# Altium footprint library Inductors.PcbLib: 15 footprints
Each footprint in its own frame and in the unit in brackets; x right, y up, seen from the top. Pads: shape width x height; smd on the part's side, far side on the other; paste and mask are expansions set on the pad; w line width, h text height; cw(c..) or ccw(c..) is an arc to the next point about the centre after c.
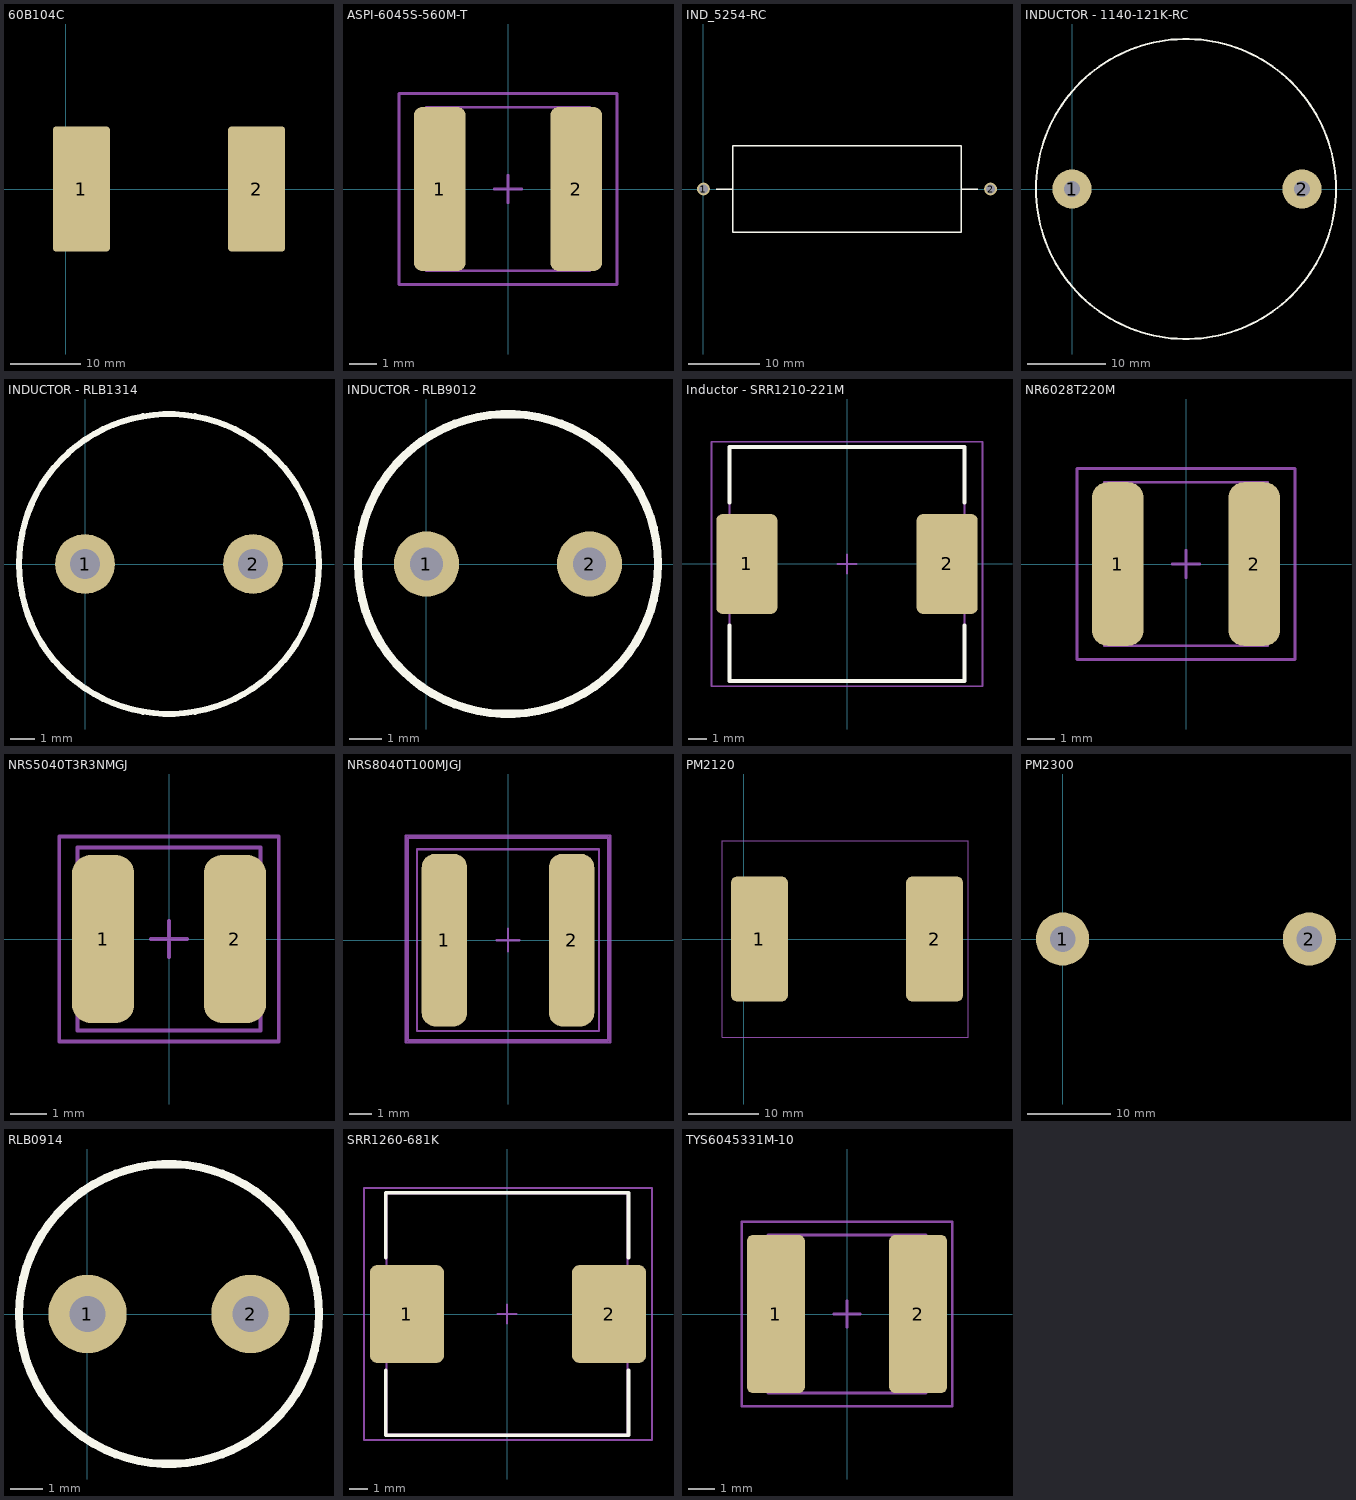
[diagram p0: the footprints below, top view; thin cyan lines are the x and y axes]

## 60B104C [mm]
pads (2):
  rrect10% 8.08x17.78 smd paste-0.026: 1(2.262,0) 2(27.202,0)
Assembly:
  text ".Designator" at 12.6,-0.2 h1.1
3D body "IND_MURATA_6000B.stp": height 19.99, standoff 0, extent 3,-13.5 26.495,13.5

## ASPI-6045S-560M-T [mm] "Inductor"
height 4.5
pads (2):
  rrect30% 1.9x6 smd paste-0.026: 1(-2.5,0) 2(2.5,0)
Mechanical 13:
  lines w0.1: -3,-3 3,-3 3,3 -3,3 -3,-3
Mechanical 15:
  lines w0.1: -0.5,0 0.5,0 ; 0,-0.5 0,0.5 ; -4,-3.5 -4,3.5 4,3.5 4,-3.5 -4,-3.5
Assembly:
  lines w0.1: -4,-3.5 4,-3.5 4,3.5 -4,3.5 -4,-3.5
  text ".Designator" at -2.4,-0.2 h1.1
3D body: height 4.5, standoff 3.5, extent -3,-3 3,3
3D body: height 1, standoff 0, extent -3,-2.5 3,2.5
3D body: height 4.5, standoff 0, extent -2.5,-2.499 2.5,2.499

## IND_5254-RC [mm]
pads (2):
  round 1.8 hole 1.2: 1(0,0) 2(40,0)
Top Overlay:
  lines w0.2: 1.8,0 4.075,0 ; 35.925,0 38.2,0 ; 4.075,0 4.075,-6 35.925,-6 35.925,6 4.075,6 4.075,0

## INDUCTOR - 1140-121K-RC [mm]
pads (2):
  round 5 hole 2: 1(0,0) 2(29.21,0)
Top Overlay:
  circle w0.254: c14.478,0 r19.05
3D body: height 26.2, standoff 0, extent -4.572,-19.012 33.378,19.012

## INDUCTOR - RLB1314 [mm]
pads (2):
  round 2.5 hole 1.25: 1(0,0) 2(7,0)
Top Overlay:
  circle w0.254: c3.5,0 r6.25
3D body: height 13, standoff 0, extent -2.7,-6.275 9.751,6.2

## INDUCTOR - RLB9012 [mm]
pads (2):
  round 2 hole 1: 1(0,0) 2(5,0)
Top Overlay:
  circle w0.254: c2.5,0 r4.6
3D body: height 11, standoff 0, extent -2.082,-4.6 7.082,4.582

## Inductor - SRR1210-221M [mm] "Molded Inductor, 2-Leads, Body 12.0x12.0mm, IPC Medium Density"
height 10
pads (2):
  rrect20% 3.25x5.3 smd paste-0.026: 1(-5.325,0) 2(5.325,0)
Top Overlay:
  lines w0.2: -6.25,-3.256 -6.25,-6.223 6.25,-6.223 6.25,-3.256 ; -6.25,3.256 -6.25,6.223 6.25,6.223 6.25,3.256
Mechanical 13:
  lines w0.1: -6.25,-6.25 -6.25,6.25 6.25,6.25 6.25,-6.25 -6.25,-6.25
Mechanical 15:
  lines w0.1: -0.5,0 0.5,0 ; 0,-0.5 0,0.5 ; -7.2,-6.5 -7.2,6.5 7.2,6.5 7.2,-6.5 -7.2,-6.5
Assembly:
  lines w0.1: -7.2,-6.5 7.2,-6.5 7.2,6.5 -7.2,6.5 -7.2,-6.5
  text ".Designator" at -2.4,-0.2 h1.1
3D body: height 10, standoff 0, extent -6.25,-6.25 6.25,6.25

## NR6028T220M [mm] "Inductor"
height 2.8
pads (2):
  rrect60% 1.9x6 smd paste-0.05: 1(-2.5,0) 2(2.5,0)
Mechanical 13:
  lines w0.1: -3,-3 -3,3 3,3 3,-3 -3,-3
Mechanical 15:
  lines w0.1: -0.5,0 0.5,0 ; 0,-0.5 0,0.5 ; -4,-3.5 -4,3.5 4,3.5 4,-3.5 -4,-3.5
Assembly:
  lines w0.1: -4,-3.5 4,-3.5 4,3.5 -4,3.5 -4,-3.5
  text ".Designator" at -2.4,-0.2 h1.1
3D body: height 0.7, standoff 0, extent -3,-2.5 3,2.5
3D body: height 2.8, standoff 1.9, extent -3,-3 3,3
3D body: height 2, standoff 0, extent -2.5,-2.499 2.5,2.499

## NRS5040T3R3NMGJ [mm] "Inductor"
height 2.8
pads (2):
  rrect60% 1.7x4.6 smd paste-0.1: 1(-1.8,0) 2(1.8,0)
Mechanical 13:
  lines w0.1: -2.5,-2.5 -2.5,2.5 2.5,2.5 2.5,-2.5 -2.5,-2.5
Mechanical 15:
  lines w0.1: -0.5,0 0.5,0 ; 0,-0.5 0,0.5 ; -3,-2.8 -3,2.8 3,2.8 3,-2.8 -3,-2.8
Assembly:
  lines w0.1: -3,-2.8 3,-2.8 3,2.8 -3,2.8 -3,-2.8
  text ".Designator" at -2.4,-0.2 h1.1
3D body: height 0.7, standoff 0, extent -2.5,-2.2 2.5,2.2
3D body: height 3.3, standoff 0.7, extent -2.5,-2.5 2.5,2.5

## NRS8040T100MJGJ [mm] "Inductor"
height 4
pads (2):
  rrect60% 2x7.6 smd paste-99: 1(-2.8,0) 2(2.8,0)
Top Paste:
  lines w1.9: -2.8,-2.8 -2.8,-1 ; -2.8,1.1 -2.8,2.8 ; 2.8,-2.8 2.8,-1 ; 2.8,1.1 2.8,2.8
Mechanical 13:
  lines w0.1: -4,-4 4,-4 4,4 -4,4 -4,-4
Mechanical 15:
  lines w0.1: -0.5,0 0.5,0 ; 0,-0.5 0,0.5 ; -4.5,-4.5 4.5,-4.5 4.5,4.6 -4.5,4.6 -4.5,-4.5
Assembly:
  lines w0.1: -4.4,-4.4 -4.4,4.5 4.4,4.5 4.4,-4.4 -4.4,-4.4
  text ".Designator" at -2.4,-0.2 h1.1
3D body: height 3.3, standoff 0.7, extent -4,-4 4,4
3D body: height 0.7, standoff 0, extent -4,-4 4,4

## PM2120 [mm]
pads (2):
  rrect20% 8.08x17.78 smd paste-0.026: 1(2.262,0) 2(27.202,0)
Assembly:
  lines w0.1: -3,-14 32,-14 32,14 -2,14 -3,14 -3,-14
  text ".Designator" at 12.6,-0.2 h1.1
3D body "pm2120-330k-rc.stp": height 20.9, standoff 0.07, extent -0.518,-12.7 29.982,12.7

## PM2300 [mil]
pads (2):
  round 250 hole 120: 1(0,0) 2(1160,0)
3D body "2306-h-rc.stp": height 676, standoff -450, extent -42.99,-623 1203,623

## RLB0914 [mm] "RLB series inductor, 0914"
pads (2):
  round 2.4 hole 1.1: 1(0,0) 2(5,0)
Top Overlay:
  circle w0.254: c2.5,0 r4.6
3D body: height 12, standoff 0, extent -2.118,-4.608 7.082,4.589
3D body: height 0, standoff -3, extent -0.325,-0.325 0.325,0.325
3D body: height 0, standoff -3, extent 4.675,-0.325 5.325,0.325

## SRR1260-681K [mm] "Molded Inductor, 2-Leads, Body 12.5x12.5mm, IPC Medium Density"
height 6
pads (2):
  rrect20% 3.95x5.2 smd paste-0.026: 1(-5.325,0) 2(5.425,0)
Top Overlay:
  lines w0.2: -6.45,-3 -6.45,-6.45 6.45,-6.45 6.45,-3 ; -6.45,3 -6.45,6.45 6.45,6.45 6.45,3
Mechanical 13:
  lines w0.1: -6.4,-6.4 6.4,-6.4 6.4,6.4 -6.4,6.4 -6.4,-6.4
Mechanical 15:
  lines w0.1: -0.5,0 0.5,0 ; 0,-0.5 0,0.5 ; -7.6,-6.7 7.7,-6.7 7.7,6.7 -7.6,6.7 -7.6,-6.7
Assembly:
  lines w0.1: -7.6,-6.7 -7.6,6.7 7.7,6.7 7.7,-6.7 -7.6,-6.7
  text ".Designator" at -2.4,-0.2 h1.1
3D body: height 6, standoff 0, extent -6.4,-6.4 6.4,6.4

## TYS6045331M-10 [mm] "Inductor"
height 2.8
pads (2):
  rrect20% 2.2x6 smd paste-0.026: 1(-2.7,0) 2(2.7,0)
Mechanical 13:
  lines w0.1: -3,-3 3,-3 3,3 -3,3 -3,-3
Mechanical 15:
  lines w0.1: -0.5,0 0.5,0 ; 0,-0.5 0,0.5 ; -4,-3.5 4,-3.5 4,3.5 -4,3.5 -4,-3.5
Assembly:
  lines w0.1: -4,-3.5 -4,3.5 4,3.5 4,-3.5 -4,-3.5
  text ".Designator" at -2.4,-0.2 h1.1
3D body: height 2.8, standoff 1.9, extent -3,-3 3,3
3D body: height 0.7, standoff 0, extent -3,-2.5 3,2.5
3D body: height 2, standoff 0, extent -2.5,-2.499 2.5,2.499